# EAGLE library part TMS9918 (library 68komputer)
TMSS9918 – Video Display Processor Datasheet <http://www.bitsavers.org/components/ti/TMS9900/TMS9918A_TMS9928A_TMS9929A_Video_Display_Processors_Data_Manual_Nov82.pdf>
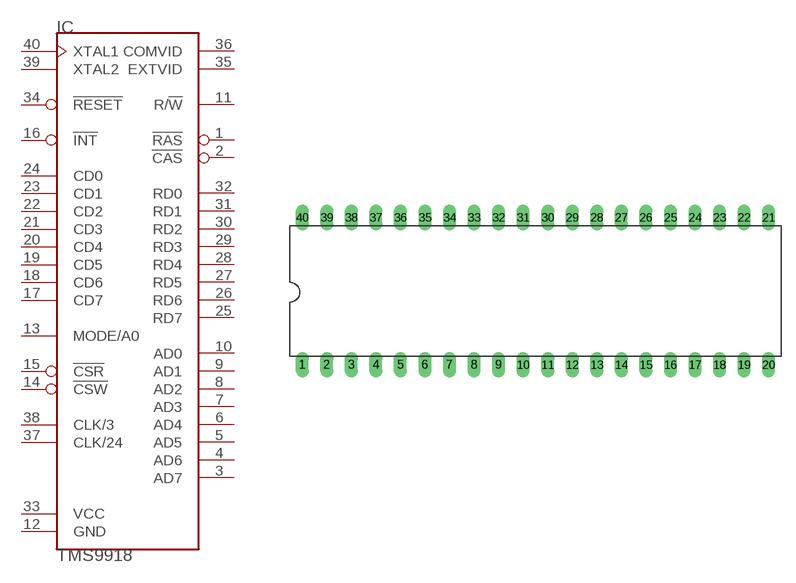
[diagram p33: symbol with the pads of DIL40; footprint DIL40]

Designator prefix IC

## TMS9918 (MOUSER_SOCKET: 437-1108764041001101; VALUE: TMS9918)  [DIL40]
1  !RAS  out
2  !CAS  out
3  AD7  in
4  AD6  in
5  AD5  in
6  AD4  in
7  AD3  in
8  AD2  in
9  AD1  in
10  AD0  in
11  R/!W!  out
12  GND  pwr
13  MODE/A0  in
14  !CSW  in
15  !CSR  in
16  !INT  out
17  CD7
18  CD6
19  CD5
20  CD4
21  CD3
22  CD2
23  CD1
24  CD0
25  RD7  in
26  RD6  in
27  RD5  in
28  RD4  in
29  RD3  in
30  RD2  in
31  RD1  in
32  RD0  in
33  VCC  pwr
34  !RESET  in
35  EXTVID  in
36  COMVID  out
37  CLK/24  out
38  CLK/3  out
39  XTAL2  pas
40  XTAL1  pas

## Footprint DIL40 (pad centres in mm)
Dual In Line Package
drill 0.813 long: 1 -24.13,-7.62; 2 -21.59,-7.62; 3 -19.05,-7.62; 4 -16.51,-7.62; 5 -13.97,-7.62; 6 -11.43,-7.62; 7 -8.89,-7.62; 8 -6.35,-7.62; 9 -3.81,-7.62; 10 -1.27,-7.62; 11 1.27,-7.62; 12 3.81,-7.62; 13 6.35,-7.62; 14 8.89,-7.62; 15 11.43,-7.62; 16 13.97,-7.62; 17 16.51,-7.62; 18 19.05,-7.62; 19 21.59,-7.62; 20 24.13,-7.62; 21 24.13,7.62; 22 21.59,7.62; 23 19.05,7.62; 24 16.51,7.62; 25 13.97,7.62; 26 11.43,7.62; 27 8.89,7.62; 28 6.35,7.62; 29 3.81,7.62; 30 1.27,7.62; 31 -1.27,7.62; 32 -3.81,7.62; 33 -6.35,7.62; 34 -8.89,7.62; 35 -11.43,7.62; 36 -13.97,7.62; 37 -16.51,7.62; 38 -19.05,7.62; 39 -21.59,7.62; 40 -24.13,7.62